# EAGLE library part MCP45X2 (library microchip)
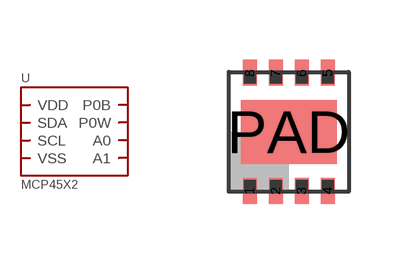
[diagram p0: symbol with the pads of DFN-8.3X3.PAD; footprint DFN-8.3X3.PAD]

Designator prefix U

## MCP45X2.DFN  [DFN-8.3X3.PAD]
1  A0
2  SCL
3  SDA
4  VSS
5  P0W
6  P0B
7  A1
8  VDD
PAD  VSS

## Footprint DFN-8.3X3.PAD (pad centres in mm)
smd 0.35 x 0.65: 1 -0.975,-1.475; 2 -0.325,-1.475; 3 0.325,-1.475; 4 0.975,-1.475; 5 0.975,1.475; 6 0.325,1.475; 7 -0.325,1.475; 8 -0.975,1.475
smd 2.4 x 1.6: PAD 0,0